# Altium schematic symbol library Battery.Schlib: 1 symbol
Pins are listed as number, name and electrical type; pins without a type are passive.

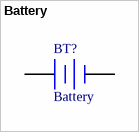
[diagram p0: symbol Battery]

## Battery
designator BT?
Multicell Battery
pins: 1 +, 2 -